# Altium schematic symbol library __rf.SchLib: 58 symbols
Pins are listed as number, name and electrical type; pins without a type are passive.

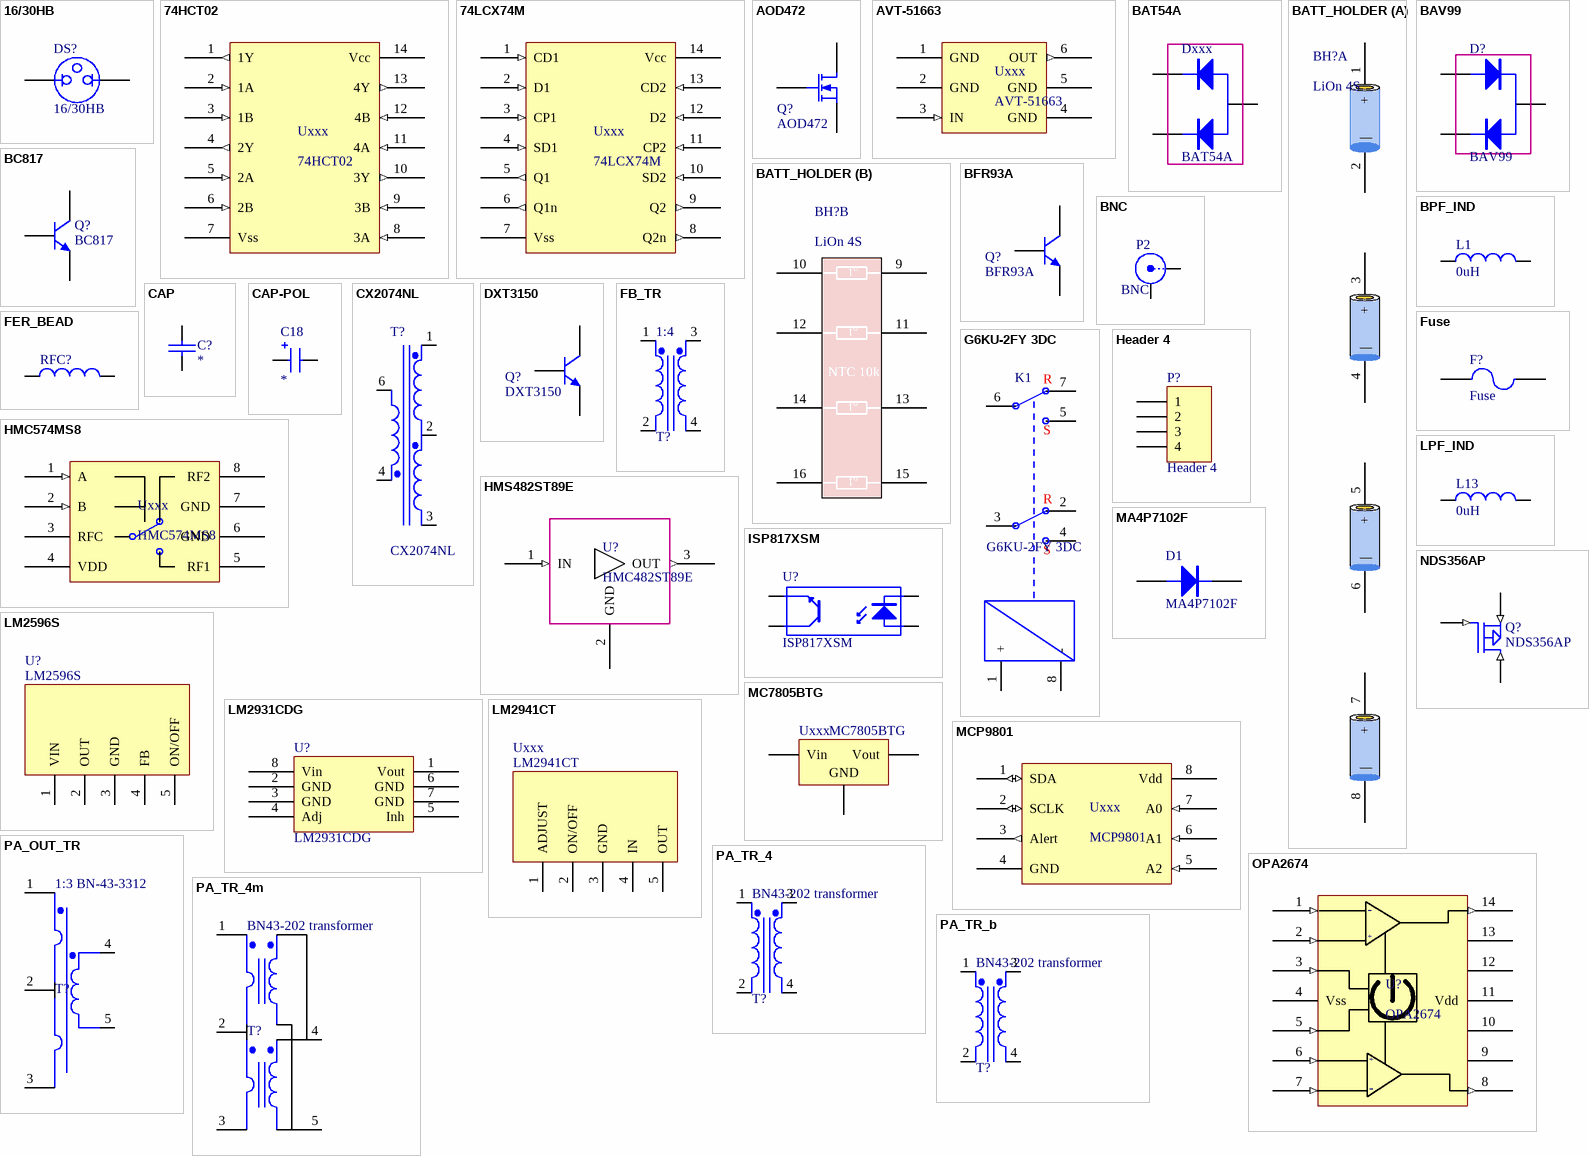
[diagram p0: symbols 16/30HB to PA_TR_b]

## 16/30HB
designator DS?
NEON LAMP, WIRE ENDED, T2; Order: FN 113-9250; Price: 0.243
footprint NEON (Neon Lamp 90V)
pins: 1, 2

## 74HCT02
designator Uxxx
Quad 2-input NOR gate; Order: FN 108-5298; Price: 0.38
footprint SO-14
pins: 1 1Y (out), 2 1A (in), 3 1B (in), 4 2Y (out), 5 2A (in), 6 2B (in), 7 Vss (power), 8 3A (in), 9 3B (in), 10 3Y (out), 11 4A (in), 12 4B (in), 13 4Y (out), 14 Vcc (power)

## 74LCX74M
designator Uxxx
Low Voltage Dual D-Type Positive Edge-Triggered  Flip-Flop with 5V Tolerant Inputs; Order: FN 101-3791; Price: 0.27
footprint SO-14
pins: 1 CD1 (in), 2 D1 (in), 3 CP1 (in), 4 SD1 (in), 5 Q1 (out), 6 Q1n (out), 7 Vss (power), 8 Q2n (out), 9 Q2 (out), 10 SD2 (in), 11 CP2 (in), 12 D2 (in), 13 CD2 (in), 14 Vcc (power)

## AOD472
designator Q?
N-Channel Enhancement Mode Field Effect Transistor, TO-252; Order: FN 108-1300; Price: 0.161
footprint TO-252 (Plastic flagne mount package)
pins: 1 G, 2 D, 3 S

## AVT-51663
designator Uxxx  (graphical)
InGaP HBT Gain Block
pins: 1 GND (power), 2 GND (power), 3 IN (in), 4 GND (power), 5 GND (power), 6 OUT (out)

## BAT54A
designator Dxxx
DIODE, SCHOTTKY, DUAL; Order: FN 108-1191; Price: 0.024
footprint SOT-23
pins: 1 K1, 2 K2, 3 A
2 alternate drawings of the same symbol

## BATT_HOLDER
designator BH?, comment LiOn 4S
LiOn 18650 4S Holder
footprint BATT_HOLDER (Connector; BNC Elbow)
part A pins: 1 +, 2 |, 3 +, 4 |, 5 +, 6 |, 7 +, 8 |
part B pins: 9, 10, 11, 12, 13, 14, 15, 16
part B text: t°; NTC 10k

## BAV99
designator D?
Small Signal Diode, Dual Series; Order: FN 162-1837; Price: 0.0618
footprint SOT-23
pins: 1 A1, 2 K1, 3 C
2 alternate drawings of the same symbol

## BC817
designator Q?
NPN General Purpose Amplifier; Order: FN 108-1223; Price: 0.0309
footprint SOT-23
pins: 1 B, 2 E, 3 C

## BFR93A
designator Q?
TRANSISTOR, RF, NPN, 12V, 0.035MA,SOT-23; Order: FN 108-1300; Price: 0.161
footprint SOT-23
pins: 1 B, 2 E, 3 C

## BNC
designator P2
RF COAXIAL, BNC, JACK; Order: FN 171-2350; Price: 0.69
footprint CON-SMA-RA (Connector, SMA Female, 5-Lead, Thru-Hole, Right-Angle, Body 7x7mm)
pins: 1 X, 2 Y

## BPF_IND
designator L1, comment 0uH
INDUCTOR SMD; Order: FN
signal-integrity model Inductor
footprint 0805
pins: 1, 2

## CAP
designator C?
Capacitor; Order: FN; Price: 0
footprint 0805
pins: 1, 2

## CAP-POL
designator C18
Electrolitic capacitor
footprint 1206
pins: 1, 2
2 alternate drawings of the same symbol

## CX2074NL
designator T?
Wideband RF Transformer 1:4; Order: DK 553-1655-ND; Price: 2.01
footprint SOP5_NEW1 (Small Outline; 6 Leads (1 Absent); Body Width 6.9 mm; Pitch 2 mm)
pins: 1 Sec0, 2 SecCmn, 3 Sec180, 4 Pri-, 6 Pri+

## DXT3150
designator Q?
BIPOLAR, TRANSISTOR, NPN, SOT-89; Order: FN 171-3880; Price: 0.221
footprint SOT89L (SOT89, 3-Leads, Body 4.5x2.4 mm, Pitch 1.5mm, Lead Span 4.1mm, IPC High Density)
pins: 1 B, 2 C, 3 E

## FB_TR
designator T?, comment 1:4
Flyback transformer 1:4; Order: EB 291023830340; Price: 0.534
footprint PA_TRM_b (bifilar transformer, 4 pin, BN43-202)
footprint FB_TR (flyback transformer 1:4, 4 pin)
pins: 1 Pri+, 2 Pri-, 3 Sec+, 4 Sec-

## FER_BEAD
designator RFC?, comment 0uH  (value not drawn)
BN43-2402 1t choke; Order: EB 300988432524; Price: 0.298
footprint F_Bead (Ferrite bead choke, 1t, BN43-2402)
pins: 1, 2

## Fuse
designator F?
Order: FN 184-1065; Price: 0.134
footprint 1206
pins: 1, 2

## G6KU-2FY 3DC
designator K1
Single-winding Latching Relay; Order: FN 118-1070; Price: 2.19
footprint Omron_2FY-Pro (Omron SMD relay)
pins: 1 +, 2, 3, 4, 5, 6, 7, 8 -
text: R; S

## Header 4
designator P?
Header, 4-Pin
signal-integrity model Connector
footprint HDR1X4 (Connector; Header; 4 Position)
pins: 1, 2, 3, 4

## HMC574MS8
designator Uxxx  (graphical)
GaAs MMIC 5 WATT T/R SWITCH
pins: 1 A (in), 2 B (in), 3 RFC, 4 VDD (power), 5 RF1, 6 GND, 7 GND (power), 8 RF2

## HMS482ST89E
designator U?, comment HMC482ST89E
MMIC AMPLIFIER
footprint SOT89L_new (SOT89, 3-Leads, Body 4.5x2.4 mm, Pitch 1.5mm, Lead Span 4.1mm, IPC High Density)
pins: 1 IN (in), 2 GND (power), 3 OUT (out)

## ISP817XSM
designator U?
OPTOCOUPLER, SMDIP-4, TR O/P; Order: FN 168-3292; Price: 0.26
footprint SMDIP-4_new1 (4 pin SMD DIP, pitch 2.54mm)
pins: 1 A "Anode", 2 K "Cathode", 3 E "Emitter", 4 C "Collector"

## LM2596S
designator U?
V REG ADJ +5/20V, SMPS TO-263-5; Order: FN 948-9371; Price: 1.28
footprint TO-263-5 (TO-263 DPAK)
pins: 1 VIN, 2 OUT, 3 GND, 4 FB, 5 ON/OFF

## LM2931CDG
designator U?
100 mA, Adjustable Output,  LDO Voltage Regulator with  60 V Load Dump Protection; Order: FN 121-1100; Price: 0.39
footprint SO-8
pins: 1 Vout, 2 GND, 3 GND, 4 Adj, 5 Inh, 6 GND, 7 GND, 8 Vin

## LM2941CT
designator Uxxx
V REG ADJ +5/20V, 2941, TO-220-5; Order: FN 948-9371; Price: 1.28
footprint TO-220_5_flat (modified TO-220 to lie flat on the PCB)
pins: 1 ADJUST, 2 ON/OFF, 3 GND, 4 IN, 5 OUT

## LPF_IND
designator L13, comment 0uH
T37-2 handwound inductor; Order: EB 400348182316; Price: 0.20
footprint LPF_IND (T37-2 inductor)
pins: 1, 2

## MA4P7102F
designator D1
MELF & HIPAX PIN Diod; Order: DK 1465-1236-1-ND; Price: 2.20
footprint 1072T (1072 MELF package)
pins: 1 K, 2 A

## MC7805BTG
designator Uxxx
VOLTAGE REG, 40V, TO220-3; Order: FN 121-1135; Price: 0.56
footprint TO-220RF_flat (modified TO-220 to lie flat on the PCB)
pins: 1 Vin, 2 GND, 3 Vout

## MCP9801
designator Uxxx  (graphical)
2-Wire High-Accuracy Temperature Sensor; Order: FN 143-9486; Price: 1.05
footprint SO-8
pins: 1 SDA (io), 2 SCLK (io), 3 Alert (out), 4 GND (power), 5 A2 (in), 6 A1 (in), 7 A0 (in), 8 Vdd (power)

## NDS356AP
designator Q?
Order: FN 984-6409; Price: 0.31
footprint SOT-23
pins: 1 G (in), 2 S (in), 3 D (in)

## OPA2674
designator U?
Dual Wideband, High Output Current / Operational Amplifier with Current Limit; Order: FN 108-5298; Price: 0.38
footprint SO-14
pins: 1 (in), 2 (in), 3 (in), 4 Vss (power), 5 (in), 6 (in), 7 (in), 8 (out), 9, 10, 11 Vdd (power), 12, 13, 14 (out)
text: -; +

## PA_OUT_TR
designator T?, comment 1:3 BN-43-3312
1:3 BN-43-3312 transformer; Order: EB 291023830340; Price: 0.534
footprint PA_OUT_TRM (transformer 1:3, 5 pin, BN43-3312)
pins: 1 Pri 0 deg, 2 Pri Common, 3 Pri 180 deg, 4 Sec+, 5 Sec-

## PA_TR_4
designator T?, comment BN43-202 transformer
BN43-202 2:3 transformer; Order: EB 291023830340; Price: 0.534
footprint PA_TRM_4 (transformer 2:3, 4 pin, BN43-202)
pins: 1 Pri+, 2 Pri-, 3 Sec+, 4 Sec-

## PA_TR_4m
designator T?, comment BN43-202 transformer
BN43-202 2:3 transformer; Order: EB 291023830340; Price: 0.534
footprint PA_TRM_4m (transformer 2:3, 4 pin, BN43-202)
pins: 1 Pri 0 deg, 2 Pri Common, 3 Pri 180 deg, 4 Sec+, 5 Sec-

## PA_TR_b
designator T?, comment BN43-202 transformer
BN43-202 bifilar transformer; Order: EB 291023830340; Price: 0.534
footprint PA_TRM_b (bifilar transformer, 4 pin, BN43-202)
pins: 1 Pri+, 2 Pri-, 3 Sec+, 4 Sec-

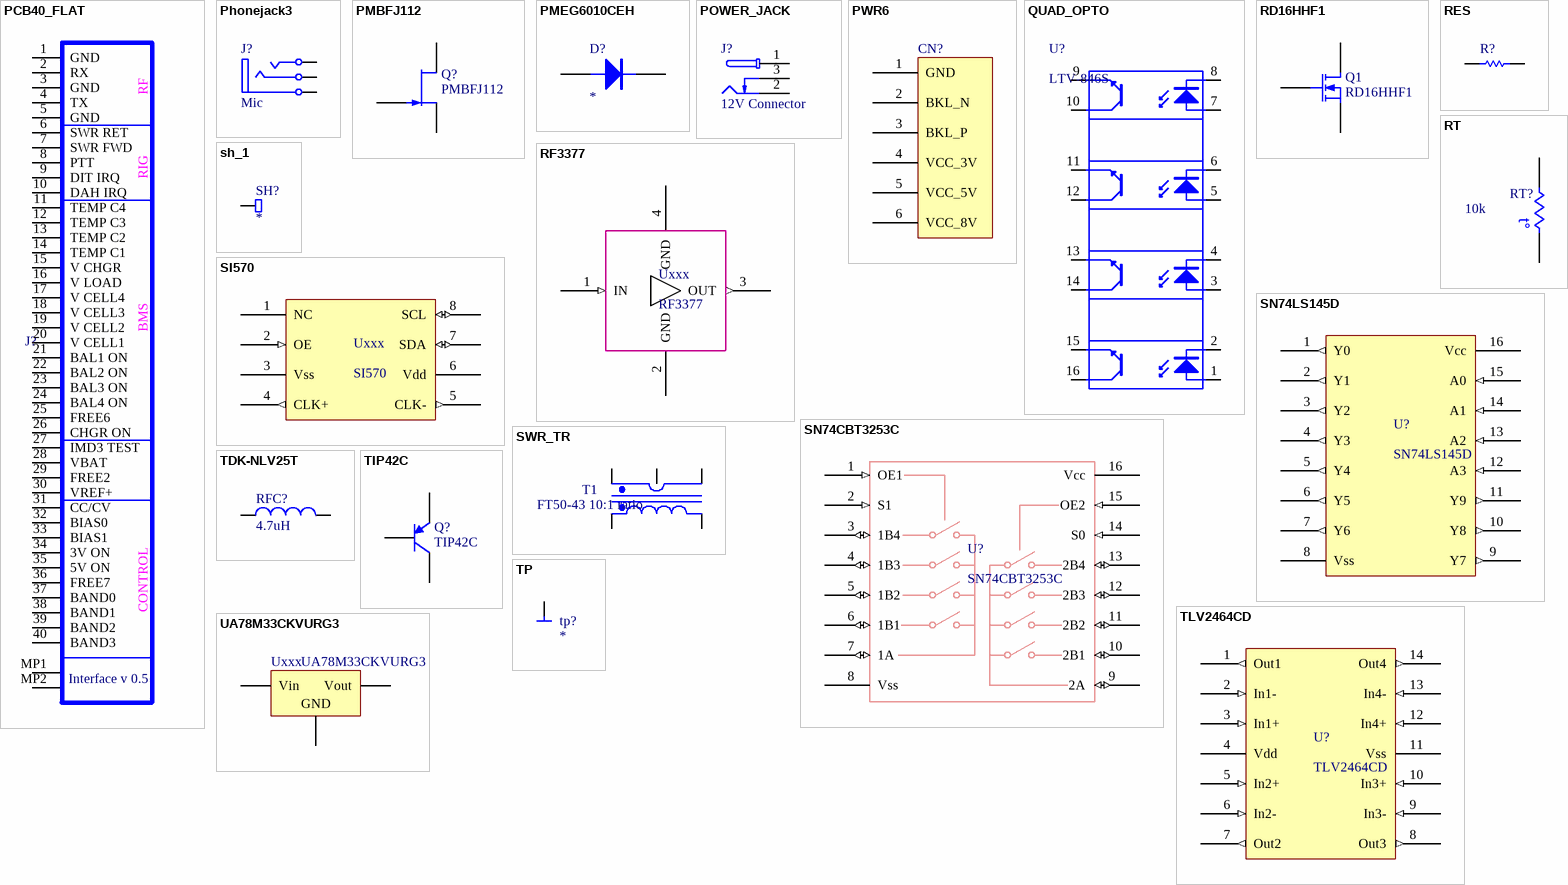
[diagram p1: symbols PCB40_FLAT to UA78M33CKVURG3]

## PCB40_FLAT
designator J?, comment INT V 0.4  (value not drawn)
40 pin FPC Flat cable connector, board to board
footprint MOLX-54132-4033 (FPC Connector, 40-Leads, Right Angle, Pitch 0.5 mm, Mated Height 2.0 mm, SMT)
pins: 1 GND, 2 RX, 3 GND, 4 TX, 5 GND, 6 SWR RET, 7 SWR FWD, 8 PTT, 9 DIT IRQ, 10 DAH IRQ, 11 TEMP C4, 12 TEMP C3, 13 TEMP C2, 14 TEMP C1, 15 V CHGR, 16 V LOAD, 17 V CELL4, 18 V CELL3, 19 V CELL2, 20 V CELL1, 21 BAL1 ON, 22 BAL2 ON, 23 BAL3 ON, 24 BAL4 ON, 25 FREE6, 26 CHGR ON, 27 IMD3 TEST, 28 VBAT, 29 FREE2, 30 VREF+, 31 CC/CV, 32 BIAS0, 33 BIAS1, 34 3V ON, 35 5V ON, 36 FREE7, 37 BAND0, 38 BAND1, 39 BAND2, 40 BAND3, MP1, MP2
text: RF; RIG; BMS; CONTROL; Interface v 0.5

## Phonejack3
designator J?, comment Mic
Jack Socket,Thru-Hole; Order: FN 126-7376; Price: 0.35
footprint MX-387GL (Pro Signal 3pin receptacle)
pins: R "Ring/Right Channel", S (power) "Sleeve (Ground)", T "Tip/Left Channel"

## PMBFJ112
designator Q?
N-Channel JFET; Order: FN 134-9667; Price: 0.36
footprint SOT-23
pins: 1 D, 2 S, 3 G

## PMEG6010CEH
designator D?
DIODE, SCHOTTKY, 1A, 60V, SOD-123F; Order: FN 151-0694; Price: 0.085
footprint SOD87
pins: 1 A, 2 K

## POWER_JACK
designator J?, comment 12V Connector
Power Jack; Order: FN 188-9309; Price: 0.83
footprint PowerJack
pins: 1, 2, 3

## PWR6
designator CN?
Power connector
footprint HDR_1x6_PWR (Male Header, Pitch 2.54mm, 6x1 Position, 90deg)
pins: 1 GND, 2 BKL_N, 3 BKL_P, 4 VCC_3V, 5 VCC_5V, 6 VCC_8V

## QUAD_OPTO
designator U?, comment LTV-846S
Quad Opto Coupler
footprint SMDIP-8 (4 pin SMD DIP, pitch 2.54mm)
pins: 1 A "Anode", 2 K "Cathode", 3 A "Anode", 4 K "Cathode", 5 A "Anode", 6 K "Cathode", 7 A "Anode", 8 K "Cathode", 9 E "Emitter", 10 C "Collector", 11 E "Emitter", 12 C "Collector", 13 E "Emitter", 14 C "Collector", 15 E "Emitter", 16 C "Collector"

## RD16HHF1
designator Q1
Silicon RF Power MOS FET; Order: EB 121171160336; Price: 7.375
footprint TO-220RF_flat (modified TO-220 to lie flat on the PCB)
pins: 1 G, 2 S, 3 D

## RES
designator R?
Resistor
footprint 0805
pins: 1, 2
2 alternate drawings of the same symbol

## RF3377
designator Uxxx
AMP, RF, GAIN BCK, DC-6GHZ, SOT89
pins: 1 IN (in), 2 GND (power), 3 OUT (out), 4 GND (power)

## RT
designator RT?, comment 10k
NTC Thermistor; Order: FN 228-5468; Price: 4.57
footprint SIP2m
pins: 1, 2
text: t°

## sh_1
designator SH?
shielding pad
footprint shield_pad
pins: 1
2 alternate drawings of the same symbol

## SI570
designator Uxxx  (graphical)
I2C programmable XO; Order: DK 336-2518-ND; Price: 8.72
footprint SI570_m (PLL, SM; Body 7 x 5 mm (LxW))
pins: 1 NC, 2 OE (in), 3 Vss (power), 4 CLK+ (out), 5 CLK- (out), 6 Vdd (power), 7 SDA (io), 8 SCL (io)

## SN74CBT3253C
designator U?
Dual 4:1 Demux/Analog Switch; Order: FN 175-0447; Price: 0.69
footprint SO-16
pins: 1 OE1 (in), 2 S1 (in), 3 1B4 (io), 4 1B3 (io), 5 1B2 (io), 6 1B1 (io), 7 1A (io), 8 Vss (power), 9 2A (io), 10 2B1 (io), 11 2B2 (io), 12 2B3 (io), 13 2B4 (io), 14 S0 (in), 15 OE2 (in), 16 Vcc (power)

## SN74LS145D
designator U?
BCD DECODER/DRIVER; Order: FN 959-2300; Price: 1.22
footprint SO-16
pins: 1 Y0 (out), 2 Y1 (out), 3 Y2 (out), 4 Y3 (out), 5 Y4 (out), 6 Y5 (out), 7 Y6 (out), 8 Vss (power), 9 Y7 (out), 10 Y8 (out), 11 Y9 (out), 12 A3 (in), 13 A2 (in), 14 A1 (in), 15 A0 (in), 16 Vcc (power)

## SWR_TR
designator T1, comment FT50-43 10:1 ratio
SWR Bridge transformer; Order: EB 300771069431; Price: 0.795
footprint SWR_TR _new (FT50-43 10:1 transformer)
pins: 1 Pri+, 2 Pri-, 3 Sec+, 4 Sec-, 5 Shield

## TDK-NLV25T
designator RFC?, comment 4.7uH
INDUCTOR, SIGNAL LINE, 4.7UH, 1005; Order: FN 166-9896; Price: 0.166
signal-integrity model Inductor
footprint 0805
pins: 1, 2

## TIP42C
designator Q?
PNP 65W Switch; Order: FN 157-4342; Price: 2.84
footprint TO-220c (TO, Thru-Hole, Vertical, Heatsink Mounted; 3 In-Line Leads; Pitch 2.54 mm)
pins: 1 B, 2 C, 3 E

## TLV2464CD
designator U?
Low Power, Rail-To-Rail OpAmp; Order: FN 845-5171; Price: 1.47
footprint SO-14
pins: 1 Out1 (out), 2 In1- (in), 3 In1+ (in), 4 Vdd (power), 5 In2+ (in), 6 In2- (in), 7 Out2 (out), 8 Out3 (out), 9 In3- (in), 10 In3+ (in), 11 Vss (power), 12 In4+ (in), 13 In4- (in), 14 Out4 (out)

## TP
designator tp?
Test point
footprint tp
pins: 1

## UA78M33CKVURG3
designator Uxxx
VOLT REG, 3.3V, TO-252; Order: FN 207-5446; Price: 0.58
footprint TO-252 (Plastic flagne mount package)
pins: 1 Vin, 2 GND, 3 Vout